# EAGLE library part PCF8575 (library texas_martin)
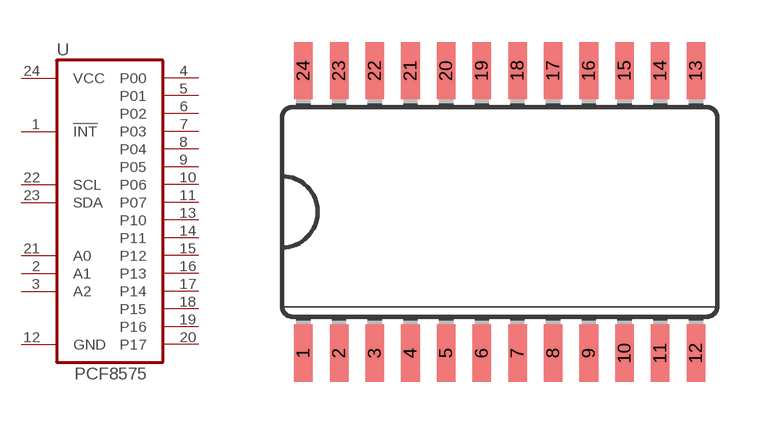
[diagram p0: symbol with the pads of SO24W; footprint SO24W]

Designator prefix -

## PCF8575DW  [SO24W]
1  !INT  in
2  A1  in
3  A2  in
4  P00  hiz
5  P01  hiz
6  P02  hiz
7  P03  hiz
8  P04  hiz
9  P05  hiz
10  P06  hiz
11  P07  hiz
12  GND  pwr
13  P10  hiz
14  P11  hiz
15  P12  hiz
16  P13  hiz
17  P14  hiz
18  P15  hiz
19  P16  hiz
20  P17  hiz
21  A0  in
22  SCL  in
23  SDA  in
24  VCC  pwr

## Footprint SO24W (pad centres in mm)
Wide Small Outline package 300 mil
smd 0.66 x 2.032: 1 -6.985,-5.029; 2 -5.715,-5.029; 3 -4.445,-5.029; 4 -3.175,-5.029; 5 -1.905,-5.029; 6 -0.635,-5.029; 7 0.635,-5.029; 8 1.905,-5.029; 9 3.175,-5.029; 10 4.445,-5.029; 11 5.715,-5.029; 12 6.985,-5.029; 13 6.985,5.029; 14 5.715,5.029; 15 4.445,5.029; 16 3.175,5.029; 17 1.905,5.029; 18 0.635,5.029; 19 -0.635,5.029; 20 -1.905,5.029; 21 -3.175,5.029; 22 -4.445,5.029; 23 -5.715,5.029; 24 -6.985,5.029